# EAGLE library part MAX603-MAX604 (library TEABOX-LIB)
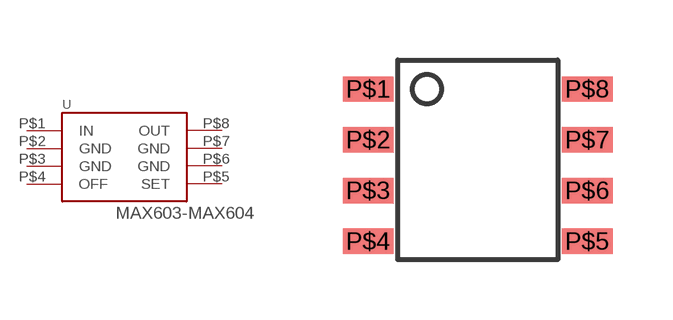
[diagram p3: symbol with the pads of SOIC-8; footprint SOIC-8]

Designator prefix U

## MAX603-MAX604  [SOIC-8]
P$1  IN
P$2  GND
P$3  GND
P$4  OFF
P$5  SET
P$6  GND
P$7  GND
P$8  OUT

## Footprint SOIC-8 (pad centres in mm)
smd 1.27 x 0.635: P$1 -2.74,1.27; P$2 -2.74,0; P$3 -2.74,-1.27; P$4 -2.74,-2.54; P$5 2.74,-2.54; P$6 2.74,-1.27; P$7 2.74,0; P$8 2.74,1.27